# Altium schematic symbol library SCH_lib.SchLib: 23 symbols
Pins are listed as number, name and electrical type; pins without a type are passive.

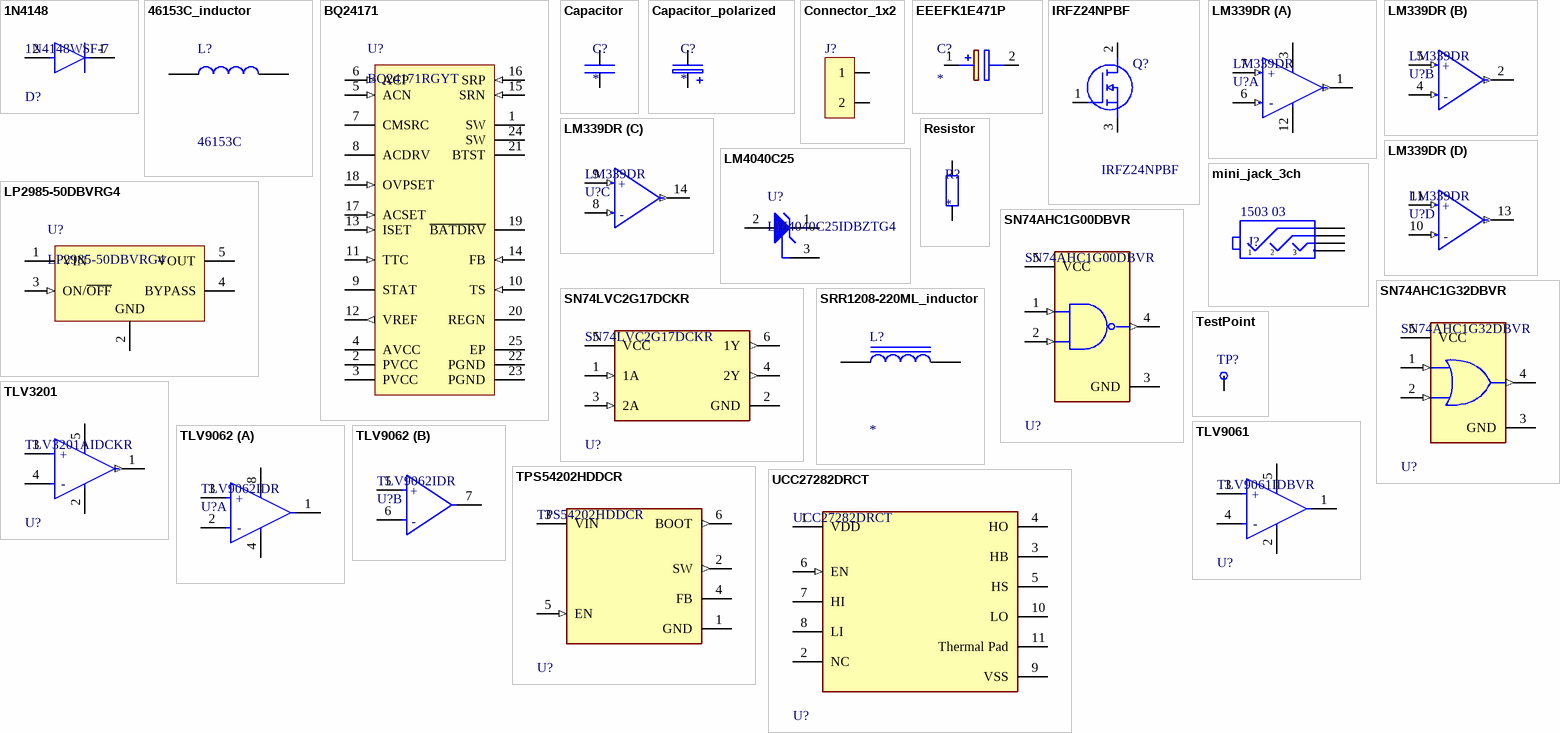
[diagram p0: symbols 1N4148 to UCC27282DRCT]

## 1N4148
designator D?, comment 1N4148WSF-7
DIODE GEN PURP 100V 250MA SOD323; Manufacturer: Diodes Inc.; Value: 1.5pF; Max Surge Forward Current: 0.5A; Peak Reverse Current: 0.5uA; Max Junction Temp: +150°C; Height: 0.75mm; Digikey Description: DIODE GEN PURP 100V 250MA SOD323; Automotive: No; Footprint Url: https://www.diodes.com/assets/Package-Files/SOD323F.pdf; Category: Diode; Manufacturer Part Number: 1N4148WSF-7; Max Repetitive Reverse Voltage: 100V; Lead Free: Yes; Temperature Range High: +150°C; Forward Current: 250mA; Reverse Voltage: 100V; Device Class L3: Rectifier Diodes; ComponentLink2URL: https://www.diodes.com/assets/Datasheets/1N4148WSF.pdf; Package: SOD323F; RoHS: TRUE; Mouser Description: Diodes - General Purpose, Power, Switching 200mW 2pF 75Vrrm 150mA 2A 1VF; Temperature: -55°C to +150°C; Capacitance: 1.5pF; Device Class L2: Diodes; ComponentLink2Description: Datasheet; Device Class L1: Discrete Semiconductors; Octopart: https://octopart.com/1n4148wsf-7-diodes+inc.-33798544; Temperature Range Low: -55°C
footprint 1N4148
simulation model 1N4148 (Model Description)
pins: 1 C, 2 A

## 46153C_inductor
designator L?, comment 46153C
Fixed Inductors 15uH 2.2A SMT; Manufacturer_Name: Murata Electronics; Geometry.Height: 4.55mm; TME Electronic Components Part Number: *; TME Electronic Components Price/Stock: *; Manufacturer_Part_Number: 46153C; Datasheet Link: https://search.murata.co.jp/Ceramy/image/img/P02A/kmp_4600.pdf
footprint INDPM7373X455N
pins: 1, 2

## BQ24171
designator U?, comment BQ24171RGYT
JEITA Compliant Stand-Alone Switch-Mode Li-Ion and Li-Polymer Battery Charger, 4.5 V, -40 to 85 degC, 24-pin VQFN (RGY), Green (RoHS & no Sb/Br); Manufacturer: Texas Instruments; Li-Polymer: N; SubFamily: Battery Charge Management; Vin(Min)(V): 4.5; Mounting Technology: Surface Mount; ComponentLink1URL: http://www.ti.com/general/docs/lit/getliterature.tsp?genericPartNumber=BQ24171&fileType=pdf; Eco-Plan: Green (RoHS & no Sb/Br); PackageVersion: revI, Jun-2011; ComponentLink1Description: Datasheet; DatasheetVersion: SLUSAF2A; PackageReference: RGY0024A; Code_JEDEC: MO-241-BA; Li-Ion: N; Lead Acid: N; PartNumber: BQ24171RGYT; NiMH: N; Over Voltage Protection: N; NiCd: N; PackageDescription: 24-Leads Plastic Quad Flatpack No-Lead, 5.5 x 3.5 x 0.9 mm Body, 0.5 mm Pitch, Exposed Pad
footprint BQ24171 (QFN, 24-Leads, Body 5.5x3.5mm, Pitch 0.5mm, Thermal Pad 3.1x2.05mm, TI Recommended)
pins: 1 SW (power) "Switching node, charge current output inductor connection. Connect the 0.047-uF bootstrap capacitor from SW to BTST.", 2 PVCC (power) "Charger input voltage. Connect at least 10-uF ceramic capacitor from PVCC to PGND and place it as close as possible to IC", 3 PVCC (power) "Charger input voltage. Connect at least 10-uF ceramic capacitor from PVCC to PGND and place it as close as possible to IC", 4 AVCC (power) "IC power positive supply. Place a 1-uF ceramic capacitor from AVCC to AGND and place it as close as possible to IC. Place a 10-ohm resistor from input side to AVCC pin to filter the noise. For 5V input, a 5-ohm resistor is (See Datasheet)", 5 ACN (in) "Adapter current sense resistor negative input. A 0.1-uF ceramic capacitor is placed from ACN to ACP to provide differential-mode filtering. An optional 0.1-uF ceramic capacitor is placed from ACN pin to AGND for common-mode (See Datasheet)", 6 ACP (in) "Adapter current sense resistor positive input. A 0.1-uF ceramic capacitor is placed from ACN to ACP to provide differential-mode filtering. A 0.1-uF ceramic capacitor is placed from ACP pin to AGND for common-mode filtering.", 7 CMSRC "Connect to common source of N-channel ACFET and reverse blocking MOSFET (RBFET). Place 4-kohm resistor from CMSRC pin to the common source of ACFET and RBFET to control the turn-on speed. The resistance between ACDRV and (See Datasheet)", 8 ACDRV "AC adapter to system switch driver output. Connect to 4-kohm resistor then to the gate of the ACFET N-channel power MOSFET and the reverse conduction blocking N-channel power MOSFET. Connect both FETs as common-source. The (See Datasheet)", 9 STAT (hiz) "Open-drain charge status pin with 10-kohm pull up to power rail. The STAT pin can be used to drive LED or communicate with the host processor. It indicates various charger operations: LOW when charge in progress. HIGH when (See Datasheet)", 10 TS (in) "Temperature qualification voltage input. Connect a negative temperature coefficient thermistor. Program the hot and cold temperature window with a resistor divider from VREF to TS to AGND.  The 103AT thermistor is (See Datasheet)", 11 TTC (in) "Safety Timer and termination control. Connect a capacitor from this node to AGND to set the fast charge safety timer(5.6min/nF). Pre-charge timer is internally fixed to 30 minutes. Pull the TTC to LOW to disable the charge (See Datasheet)", 12 VREF (out) "3.3V reference voltage output. Place a 1-uF ceramic capacitor from VREF to AGND pin close to the IC. This voltage could be used for programming ISET and ACSET and TS pins. It may also serve as the pull-up rail of STAT pin (See Datasheet)", 13 ISET (in) "Fast charge current set point. Use a voltage divider from VREF to ISET to AGND to set the fast charge current: ICHG=VISET/(20*RSR) The pre-charge and termination current is internally as one tenth of the charge current. The (See Datasheet)", 14 FB (in) "Charge voltage analog feedback adjustment. Connect the output of a resistor divider powered from the (bq24172) battery terminals to VFB to AGND. Output voltage is regulated to 2.1V on FB pin during constant-voltage mode", 15 SRN (in) "Charge current sense resistor negative input. A 0.1-uF ceramic capacitor is placed from SRN to SRP to provide differential-mode filtering. A 0.1-uF ceramic capacitor is placed from SRN pin to AGND for common-mode filtering.", 16 SRP (in) "Charge current sense resistor, positive input. A 0.1-uF ceramic capacitor is placed from SRN to SRP to provide differential-mode filtering. A 0.1-uF ceramic capacitor is placed from SRP pin to AGND for common-mode filtering.", 17 ACSET (in) "Input current set point. Use a voltage divider from VREF to ACSET to AGND to set this value:IDPM=VACSET/(20*RAC)", 18 OVPSET (in) "Valid input voltage set point. Use a voltage divider from input to OVPSET to AGND to set this voltage. The voltage above internal 1.6V reference indicates input over-voltage, and the voltage below internal 0.5V reference (See Datasheet)", 19 ~{BATDRV} "Battery discharge MOSFET gate driver output. Connect to 1kohm resistor to the gate of the BATFET P-channel power MOSFET. Connect the source of the BATFET to the system load voltage node. Connect the drain of the BATFET to (See Datasheet)", 20 REGN (power) "PWM low side driver positive 6V supply output. Connect a 1-uF ceramic capacitor from REGN to PGND pin, close to the IC. Generate high-side driver bootstrap voltage by integrated diode from REGN to BTST", 21 BTST (power) "PWM high side driver positive supply. Connect the 0.047-uF bootstrap capacitor from SW to BTST.", 22 PGND (power) "Power ground. Ground connection for high-current power converter node. On PCB layout, connect directly to ground connection of input and output capacitors of the charger. Only connect to AGND through the Thermal Pad (See Datasheet)", 23 PGND (power) "Power ground. Ground connection for high-current power converter node. On PCB layout, connect directly to ground connection of input and output capacitors of the charger. Only connect to AGND through the Thermal Pad (See Datasheet)", 24 SW (power) "Switching node, charge current output inductor connection. Connect the 0.047-uF bootstrap capacitor from SW to BTST.", 25 EP (power) "Exposed pad beneath the IC. Always solder Thermal Pad to the board, and have vias on the Thermal  Pad plane star-connecting to AGND and ground plane for high-current power converter. It dissipates the heat from the IC."

## Capacitor
designator C?
Manufacturer: *; Part Number: *; Value: *
footprint CAP_IPC_0805_133A
footprint CAP_VJ_0805_MD
footprint CAP_1206
pins: 1, 2

## Capacitor_polarized
designator C?
Manufacturer: *; Part Number: *; Value: *
footprint VJ_Tantalum_A
footprint VJ_TANTALUM_D
pins: 1, 2

## Connector_1x2
designator J?  (value not drawn)
Fixed Terminal Blocks Terminal block, screw type, 1x2; ComponentLink1Description: TME site; ComponentLink1URL: https://www.tme.eu/pl/details/dg126-5.0-2p14/listwy-zaciskowe-do-druku/degson-electronics/dg126-5-0-02p-14-00z-h/
footprint TerminalBlock_1x2
pins: 1, 2

## EEEFK1E471P
designator C?
Capacitor Polarised; Manufacturer_Name: Panasonic; Manufacturer_Part_Number: EEEFK1E471P; Datasheet Link: http://industrial.panasonic.com/cdbs/www-data/pdf/RDE0000/ABA0000C1181.pdf; Mouser Part Number: 667-EEE-FK1E471P; Mouser Price/Stock: http://www.mouser.com/Search/ProductDetail.aspx?qs=qE6bgDGEOCvvsolWS4cebg%3d%3d; Arrow Part Number: EEEFK1E471P; Arrow Price/Stock: https://www.arrow.com/en/products/eee-fk1e471p/panasonic; Value: *
footprint EEEFK1V331P
pins: 1 +, 2 -

## IRFZ24NPBF
designator Q?
HEXFET POWER MOSFET N-CHANNEL; Manufacturer_Name: Infineon; Geometry.Height: 4.69mm; TME Electronic Components Part Number: *; TME Electronic Components Price/Stock: *; Manufacturer_Part_Number: IRFZ24NPBF; Datasheet Link: *
footprint IRFZ24NPBF
simulation model irfz24n (Model Description)
pins: 1 G, 2 D, 3 S

## LM339DR
designator U?
IC QUAD DIFF COMP 14-SOIC; Manufacturer: Texas Instruments; Nominal Supply Current: 0.8mA; Min Dual Supply Voltage: 1V; Number Of Channels: 4; Input Offset Voltage: 2mV; Max Junction Temp: +70°C; Min Supply Voltage: 2V; Response Time: 1.3us; Max Dual Supply Voltage: 18V; Max Supply Voltage: 30V; Standoff Height: 0.1mm; Input Bias Current: -0.025uA; Output Current Per Channel: 6mA; Category: IC; Octopart: https://octopart.com/lm339dr-texas+instruments-45532; Automotive: No; Temperature: 0°C to +70°C; Ipc Land Pattern Name: SOIC127P600X175-14; Temperature Range Low: 0°C; Mouser Description: Analog Comparators Quad Differential; Lead Free: Yes; Digikey Description: IC QUAD DIFF COMP 14-SOIC; ComponentLink2URL: http://www.ti.com/lit/ds/symlink/lm339.pdf; Device Class L3: Comparators; Manufacturer Part Number: LM339DR; Temperature Range High: +70°C; Device Class L2: Linear ICs; Height: 1.75mm; Device Class L1: Integrated Circuits (ICs); Package: D0014A; RoHS: TRUE; ComponentLink2Description: Datasheet
footprint LM339DR
part A pins: 1 1OUT (out), 3 VCC (power), 6 1IN- (in), 7 1IN+ (in), 12 GND (power)
part B pins: 2 2OUT (out), 4 2IN- (in), 5 2IN+ (in)
part C pins: 8 3IN- (in), 9 3IN+ (in), 14 OUT3 (out)
part D pins: 10 4IN- (in), 11 4IN+ (in), 13 OUT4 (out)
part A text: +; -
part B text: +; -
part C text: +; -
part D text: +; -

## LM4040C25
designator U?, comment LM4040C25IDBZTG4
Precision Micropower Shunt Voltage Reference, 0.5% accuracy, 2.5 V, 15 ppm / degC, 15 mA, -40 to 85 degC, 3-pin SOT-23 (DBZ), Green (RoHS & no Sb/Br); Manufacturer: Texas Instruments; Temp Coeff(Max)(ppm/ degree C): 100; VO(V): 2.5; Rating: Catalog; Min Iz for Regulation(uA): 75; Temp Coeff(Typ)(ppm/ degree C): 15; Initial Accuracy @ 25/deg C(%): 0.5; PartNumber: LM4040C25IDBZTG4; PackageDescription: 3-Pin Plastic Small Outline, Body 2.92 x 1.3 mm, Pitch 0.95 mm; PackageVersion: 4203227/B; ComponentLink3URL: http://www.ti.com/litv/pdf/mpds108a; ComponentLink2URL: http://www.ti.com/general/docs/lit/getliterature.tsp?genericPartNumber=LM4040C25&fileType=pdf; Mounting Technology: Surface Mount; ComponentLink3Description: Package Specification; ComponentLink1URL: http://www.ti.com/; DatasheetVersion: SLOS456K; PackageReference: DBZ3; ComponentLink1Description: Manufacturer URL; Eco-Plan: Green (RoHS & no Sb/Br); SubFamily: Shunt Voltage Reference; Code_JEDEC: TO-236; Iout/Iz(Max)(mA): 15; ComponentLink2Description: Datasheet
footprint LM4040C25 (SOT23, 3-Leads, Body 2.92x1.3 mm, Pitch 0.95 mm, IPC Medium Density)
simulation model LM4040_NA2P5 (Model Description)
pins: 1 CATHODE, 2 ANODE, 3 NC

## LP2985-50DBVRG4
designator U?
Single Output Low Noise LDO, 150 mA, Fixed 5 V Output, 1.5% Tolerance, 2.2 to 16 V Input, Low IQ, 5-Pin SOT-23 (DBV), -40 to 125 degC, Green (RoHS & no Sb/Br), Tape and Reel; Manufacturer: Texas Instruments; Vdo (Typ) (mV): 280; Fixed Output Options (V): 5; Accuracy (%): 1.5; Output Options: Fixed Output; Iout (Max) (A): 0.15; Iq (Typ) (mA): 0.85; Packing: Tape and Reel; ComponentLink2URL: http://www.ti.com/lit/ds/symlink/lp2985-50.pdf; Vin (V): 2.2 to 16; ComponentLink3URL: http://www.ti.com/litv/pdf/mpds018j; Operating Temperature Range (degC): -40 to 125; ComponentLink3Description: Package Specification; ComponentLink1Description: Manufacturer URL; RoHS: TRUE; PackageReference: DBV0005A; PackageDescription: 5-Pin Plastic Small Outline, Body 2.9 x 1.6 mm, Pitch 0.95 mm; DatasheetVersion: SLVS522N; PackageVersion: 4073253-4/L; Mounting Technology: Surface Mount; ComponentLink1URL: http://www.ti.com/; PartNumber: LP2985-50DBVRG4; ComponentLink2Description: Datasheet
footprint LP2985-50DBVRG4 (SOT23, 5-Leads, Body 3.05x1.75mm, Pitch 0.95mm, IPC High Density)
simulation model LP2985-50 (Model Description)
pins: 1 VIN (power), 2 GND (power), 3 ON/~{OFF} (in), 4 BYPASS, 5 VOUT (power)

## mini_jack_3ch
designator J?  Part number: 1503 03
Connector: Jack 3.5mm; socket; female; stereo; tracks: 3; Producer: LUMBERG; ComponentLink1Description: TME; ComponentLink1URL: https://www.tme.eu/pl/details/1503-03/zlacza-jack/lumberg/1503-03/
footprint 150303_mini_jack3.5mm
pins: 1, 2, 3, 4

## Resistor
designator R?
Manufacturer: *; Part Number: *; Value: *; ComponentLink1Description: HelpURL; ComponentLink1URL: *
footprint RES_VJ_0402_MD (Chip Resistor, 2-Leads, Body 1,07x0,56mm, IPC Medium Density)
footprint RES_VJ_0603_MD
footprint RES_VJ_1005_MD
pins: 1, 2

## SN74AHC1G00DBVR
designator U?
IC GATE NAND 1CH 2-INP SOT23-5; Manufacturer: Texas Instruments; Standoff Height: 0mm; Number Of Outputs: 1; Nominal Supply Current: 1uA; Max Junction Temp: +150°C; Propagation Delay: 5.2ns; Min Supply Voltage: 2V; Max Supply Voltage: 5.5V; Number Of Inputs: 2; Category: IC; Logic Function Desc: NAND; Ambient Temperature Range High: +125°C; Automotive: No; Octopart: https://octopart.com/sn74ahc1g00dbvr-texas+instruments-464400; Device Class L1: Integrated Circuits (ICs); Device Class L2: Logic ICs; RoHS: TRUE; Height: 1.45mm; Digikey Description: IC GATE NAND 1CH 2-INP SOT23-5; Lead Free: Yes; Ambient Temperature Range Low: -40°C; Number Of Circuits: 1; Device Class L3: Logic Gates; Package: DBV0005A; Manufacturer Part Number: SN74AHC1G00DBVR; ComponentLink2URL: https://www.ti.com/lit/ds/symlink/sn74ahc1g00.pdf; Temperature Range Low: -40°C; Temperature: -40°C to +125°C; Temperature Range High: +125°C; ComponentLink2Description: Datasheet
footprint SN74AHC1G00DBVR
simulation model SN74AHC1G00 (Model Description)
pins: 1 A (in), 2 B (in), 3 GND (power), 4 Y (out), 5 VCC (power)

## SN74AHC1G32DBVR
designator U?
IC GATE OR 1CH 2-INP SOT23-5; Manufacturer: Texas Instruments; Nominal Supply Current: 1uA; Number Of Outputs: 1; Max Supply Voltage: 5.5V; Propagation Delay: 5.3ns; Min Supply Voltage: 2V; Standoff Height: 0mm; Number Of Inputs: 2; Package: DBV0005A; Device Class L2: Logic ICs; Manufacturer Part Number: SN74AHC1G32DBVR; ComponentLink2Description: Datasheet; Height: 1.45mm; Octopart: https://octopart.com/sn74ahc1g32dbvr-texas+instruments-464406; Device Class L3: Logic Gates; Temperature: -40°C to +125°C; ComponentLink2URL: https://www.ti.com/lit/ds/symlink/sn74ahc1g32.pdf; Ambient Temperature Range High: +125°C; Device Class L1: Integrated Circuits (ICs); Ambient Temperature Range Low: -40°C; Ipc Land Pattern Name: SOT95P280X145-5; Logic Function Desc: OR; Category: IC; Mouser Description: IC: digital; OR; Inputs: 2; SMD; SOT23-5; Series: AHC; Automotive: No; Number Of Circuits: 1; Lead Free: Yes; RoHS: TRUE; Temperature Range High: +125°C; Digikey Description: IC GATE OR 1CH 2-INP SOT23-5; Temperature Range Low: -40°C
footprint SN74AHC1G32DBVR
simulation model SN74AHC1G32 (Model Description)
pins: 1 A (in), 2 B (in), 3 GND (power), 4 Y (out), 5 VCC (power)

## SN74LVC2G17DCKR
designator U?
IC BUF NON-INVERT 5.5V SC70-6; Schmitt Trigger Input: Yes; Number of Inputs: 2; Propagation Delay: 4.3ns; Number of Bits per Element: 1; Logic Function: Schmitt Trigger; Polarity: Non-Inverting; Low Level Output Current: 32mA; High Level Output Current: -32mA; Min Supply Voltage: 1.65V; Nominal Supply Current: 250mA; Quiescent Current: 10uA; Turn-On Delay Time: 9.3ns; Number of Pins: 6; Number of Channels: 2; Length: 2mm; Min Operating Temperature: -40°C; Contact Plating: Gold; Lead Free: Lead Free; Termination: SMD/SMT; Width: 1.25mm; Package Quantity: 1; REACH SVHC: No SVHC; Number of Bits: 2; Max Supply Voltage: 5.5V; Number of Output Lines: 2; Mount: Surface Mount; Number of Circuits: 2; Packaging: Tape and Reel; Case/Package: SC; Number of Input Lines: 2; Number of Gates: 2; RoHS Compliant: Yes; Height: 0.9mm; Max Operating Temperature: 125°C; Number of Elements: 2; Number of Outputs: 2; Radiation Hardening: No
footprint SN74LVC2G17DCKR
simulation model SN74LVC2G17 (Model Description)
pins: 1 1A (in), 2 GND (power), 3 2A (in), 4 2Y (out), 5 VCC (power), 6 1Y (out)

## SRR1208-220ML_inductor
designator L?
Inductor SMD; 22uH; Ioperation: 3.5A; R: 43mΩ; ±20%; Isat: 4A; Manufacturer_Name: BOURNS; Manufacturer_Part_Number: SRR1208-220ML; TME Electronic Components Part Number: *; TME Electronic Components Price/Stock: *; Value: *
footprint SRR1208-220ML
pins: 1, 2

## TestPoint
designator TP?  (value not drawn)
Test Point
footprint TestPoint_SMT
footprint TestPoint_THT
pins: 1

## TLV3201
designator U?, comment TLV3201AIDCKR
IC COMPARATOR RRI SGL SC70-5; Output Type: PUSH-PULL; Max Supply Current: 40uA; Nominal Supply Current: 50uA; Propagation Delay: 50ns; Max Input Current: 5nA; Input Offset Voltage (Vos): 5mV; Number of Channels: 1; Power Supply Rejection Ratio (PSRR): 85dB; Hysteresis: 1.2mV; Min Supply Voltage: 2.7V; Max Supply Voltage: 5.5V; Response Time: 0.047us; Series: -; Case/Package: SOT-23-5; Packaging: Tape and Reel; Number of Pins: 5; RoHS Compliant: Yes; Min Operating Temperature: -40°C; Mount: Surface Mount; Radiation Hardening: No; Number of Elements: 1; Input Bias Current: 5nA; Lead Free: Lead Free; Max Operating Temperature: 125°C; Supply Current: 50uA; Type: General Purpose; Common Mode Rejection Ratio: 85dB; Package Quantity: 3000; Quiescent Current: 40uA
footprint TLV3201
simulation model TLV3201 (Model Description)
pins: 1 OUT (out), 2 GND (power), 3 IN+ (hiz), 4 IN- (hiz), 5 VCC (power)
text: +

## TLV9061
designator U?, comment TLV9061IDBVR
IC CMOS 1 CIRCUIT SOT23-5; Gain Bandwidth Product: 10MHz; Operating Supply Current: 538uA; Output Current per Channel: 50mA; Number of Circuits: 1; Input Bias Current: 0.5pA; Input Offset Voltage (Vos): 300uV; Slew Rate: 6.5V/µs; Min Operating Temperature: -40°C; Packaging: Cut Tape; RoHS Compliant: Yes; Mount: Surface Mount; Max Operating Temperature: 125°C; Case/Package: SOT-23-6
footprint TLV9061
simulation model TLV9062 (Model Description)
pins: 1 OUT, 2 V- (power), 3 IN+ (hiz), 4 IN- (hiz), 5 V+ (power)
text: +; -

## TLV9062
designator U?, comment TLV9062IDR
IC CMOS 2 CIRCUIT 8SOIC; Slew Rate: 6.5V/µs; Number of Channels: 2; Input Offset Voltage (Vos): 300uV; Input Bias Current: 0.5pA; Output Current per Channel: 50mA; Gain Bandwidth Product: 10MHz; Operating Supply Current: 538uA; RoHS Compliant: Yes; Case/Package: SOIC; Number of Circuits: 2; Number of Pins: 8; Mount: Surface Mount; Max Operating Temperature: 125°C; Min Operating Temperature: -40°C; Packaging: Tape and Reel
footprint TLV9062
part A pins: 1 OUT1, 2 IN1- (hiz), 3 IN1+ (hiz), 4 V- (power), 8 V+ (power)
part B pins: 5 IN2+ (hiz), 6 IN2- (hiz), 7 OUT2
part A text: +; -
part B text: +; -

## TPS54202HDDCR
designator U?
IC REG BUCK ADJ 2A TSOT23-6; Min Output Voltage: 596mV; Number of Outputs: 1; Max Input Voltage: 28V; Switching Frequency: 500kHz; Output Configuration: Positive; Min Input Voltage: 4.5V; Synchronous Rectifier: Yes; Output Type: Adjustable; Quiescent Current: 40uA; Case/Package: SOT-23-6; Output Current: 2A; Mount: Surface Mount; Min Operating Temperature: -40°C; Max Output Voltage: 28V; Max Operating Temperature: 125°C; Lead Free: Lead Free; Packaging: Tape and Reel; RoHS Compliant: Yes
footprint TPS54202HDDCR
simulation model TPS54202H_TRANS (Model Description)
pins: 1 GND (power), 2 SW (out), 3 VIN (power), 4 FB, 5 EN (in), 6 BOOT (out)

## UCC27282DRCT
designator U?
IC GATE DRVR HALF-BRIDGE 10VSON; RoHS Compliant: Yes
footprint UCC27282
simulation model UCC27282 (Model Description)
pins: 1 VDD (power), 2 NC, 3 HB, 4 HO, 5 HS, 6 EN (in), 7 HI, 8 LI, 9 VSS (power), 10 LO, 11 Thermal Pad (power)